# Altium schematic symbol library Keystone.SchLib: 5 symbols
Pins are listed as number, name and electrical type; pins without a type are passive.

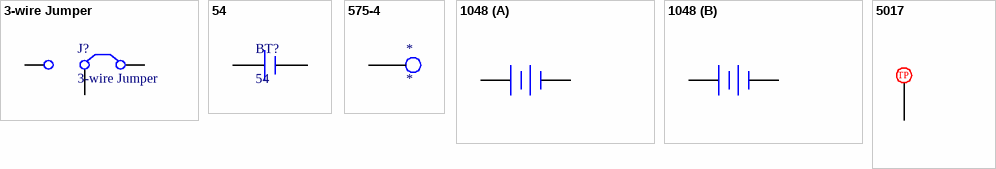
[diagram p0: symbols 3-wire Jumper to 5017]

## 3-wire Jumper
designator J?
pins: 1 C1, 2 C2, 3 C3

## 54
designator BT?
Supplier 1: Newark; Supplier 2: Digi-Key; Supplier Part Number 1: 25T0475; Supplier Part Number 2: 36-54-ND
pins: 1 +, 2 -

## 575-4
designator *
pins: 1 9

## 1048
designator BT?
footprint HDR1X2 (Connector; Header; 2 Position)
signal-integrity model Connector
footprint SLN-GRPB021
part A pins: 1 +, 2 -
part B pins: 3 +, 4 -, 5 GND hidden to GND

## 5017
designator TP?  (value not drawn)
Supplier 1: Digi-Key; Supplier 2: Newark; Supplier 3: Mouser
pins: 1
text: TP